# EAGLE library part CBTLV3125 (library GW-devices)
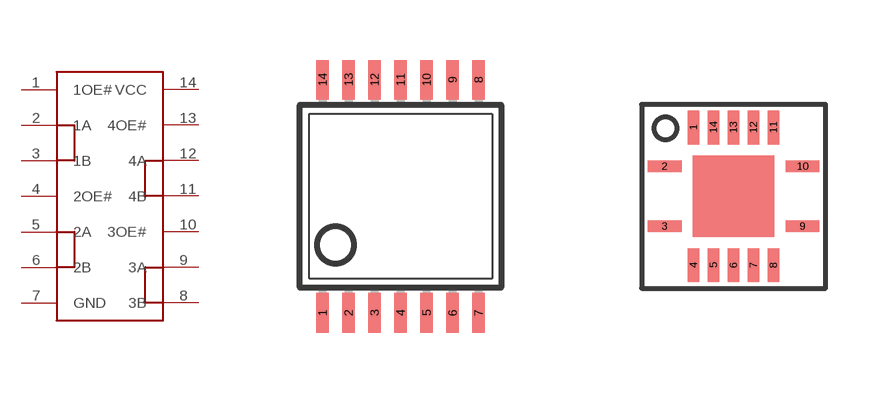
[diagram p19: symbol with the pads of TSSOP14; footprints TSSOP14, MO-241-BA]

Designator prefix -

## CBTLV3125PGG  [TSSOP14]
1  1OE#
2  1A
3  1B
4  2OE#
5  2A
6  2B
7  GND
8  3B
9  3A
10  3OE#
11  4B
12  4A
13  4OE#
14  VCC

## CBTLV3125RGY  [MO-241-BA]
Pads as for TSSOP14

## Footprint TSSOP14 (pad centres in mm)
Thin Shrink Small Outline Plastic 14 MAX3223-MAX3243.pdf
smd 0.305 x 0.991: 1 -1.95,-2.918; 2 -1.3,-2.918; 3 -0.65,-2.918; 4 0,-2.918; 5 0.65,-2.918; 6 1.3,-2.918; 7 1.95,-2.918; 8 1.95,2.918; 9 1.3,2.918; 10 0.65,2.918; 11 0,2.918; 12 -0.65,2.918; 13 -1.3,2.918; 14 -1.95,2.918

## Footprint MO-241-BA (pad centres in mm)
smd 0.28 x 0.85: 1 -1,1.725; 4 -1,-1.725; 5 -0.5,-1.725; 6 0,-1.725; 7 0.5,-1.725; 8 1,-1.725; 11 1,1.725; 12 0.5,1.725; 13 0,1.725; 14 -0.5,1.725
smd 0.85 x 0.28: 2 -1.725,0.75; 3 -1.725,-0.75; 9 1.725,-0.75; 10 1.725,0.75